# Altium schematic symbol library Diodes.SchLib: 6 symbols
Pins are listed as number, name and electrical type; pins without a type are passive.

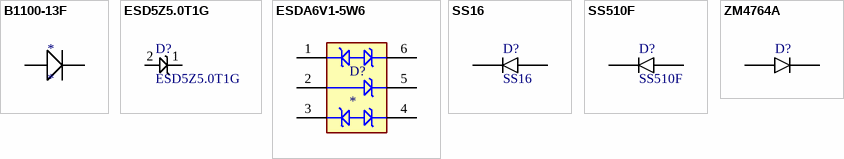
[diagram p0: symbols B1100-13F to ZM4764A]

## B1100-13F
designator *
footprint DIOM5226X230N
pins: 1 -, 2 +

## ESD5Z5.0T1G
designator D?
ESD DIODE 5VWM 18.6VC SOD-523; val: ESD5Z5.0; note: *; sample link: https://www.lcsc.com/product-detail/C397782.html
footprint SOD-523_0P9X1P3_ONS
pins: 1 CATHODE, 2 ANODE

## ESDA6V1-5W6
designator D?
- Clamp - Ipp Tvs Diode Surface Mount SOT-323-6L; val: TECH PUBLIC ESDA6V1-5W6-TP; note: *; sample link: https://www.lcsc.com/product-detail/C970031.html?s_z=n_ESDA6V1-5W6
footprint DIO_ESDA6V1-5W6
pins: 1, 2, 3, 4, 5, 6

## SS16
designator D?
Independent 60V 700mV@1A 1A SMA(DO-214AC) Single Diodes RoHS; note: any manufacturer; val: SS16; sample link: https://www.lcsc.com/product-detail/Schottky-Barrier-Diodes-SBD_GOODWORK-SS16_C2943739.html
footprint DO-214AC (SODFL, 2-Leads, Body 1,30x2,50mm, IPC Medium Density)
pins: 1, 2

## SS510F
designator D?
100V 850mV@5A 5A SMAF Schottky Diodes ROHS; note: any manufacturer; val: SS510F; sample link: https://www.lcsc.com/product-detail/Schottky-Diodes_XUMAO-SS510F_C22466253.html
footprint SMAF
pins: 1, 2

## ZM4764A
designator D?, comment ZM4764A-GS08  (value not drawn)
Zener Diode 100V 1W ±5% Surface Mount DO-213AB; note: Original; val: ZM4764A-GS08; sample link: https://www.lcsc.com/product-detail/Schottky-Barrier-Diodes-SBD_GOODWORK-SS16_C2943739.html
footprint DO-213
pins: 1, 2